# Altium schematic symbol library machada_general_ICs.SchLib: 5 symbols
Pins are listed as number, name and electrical type; pins without a type are passive.

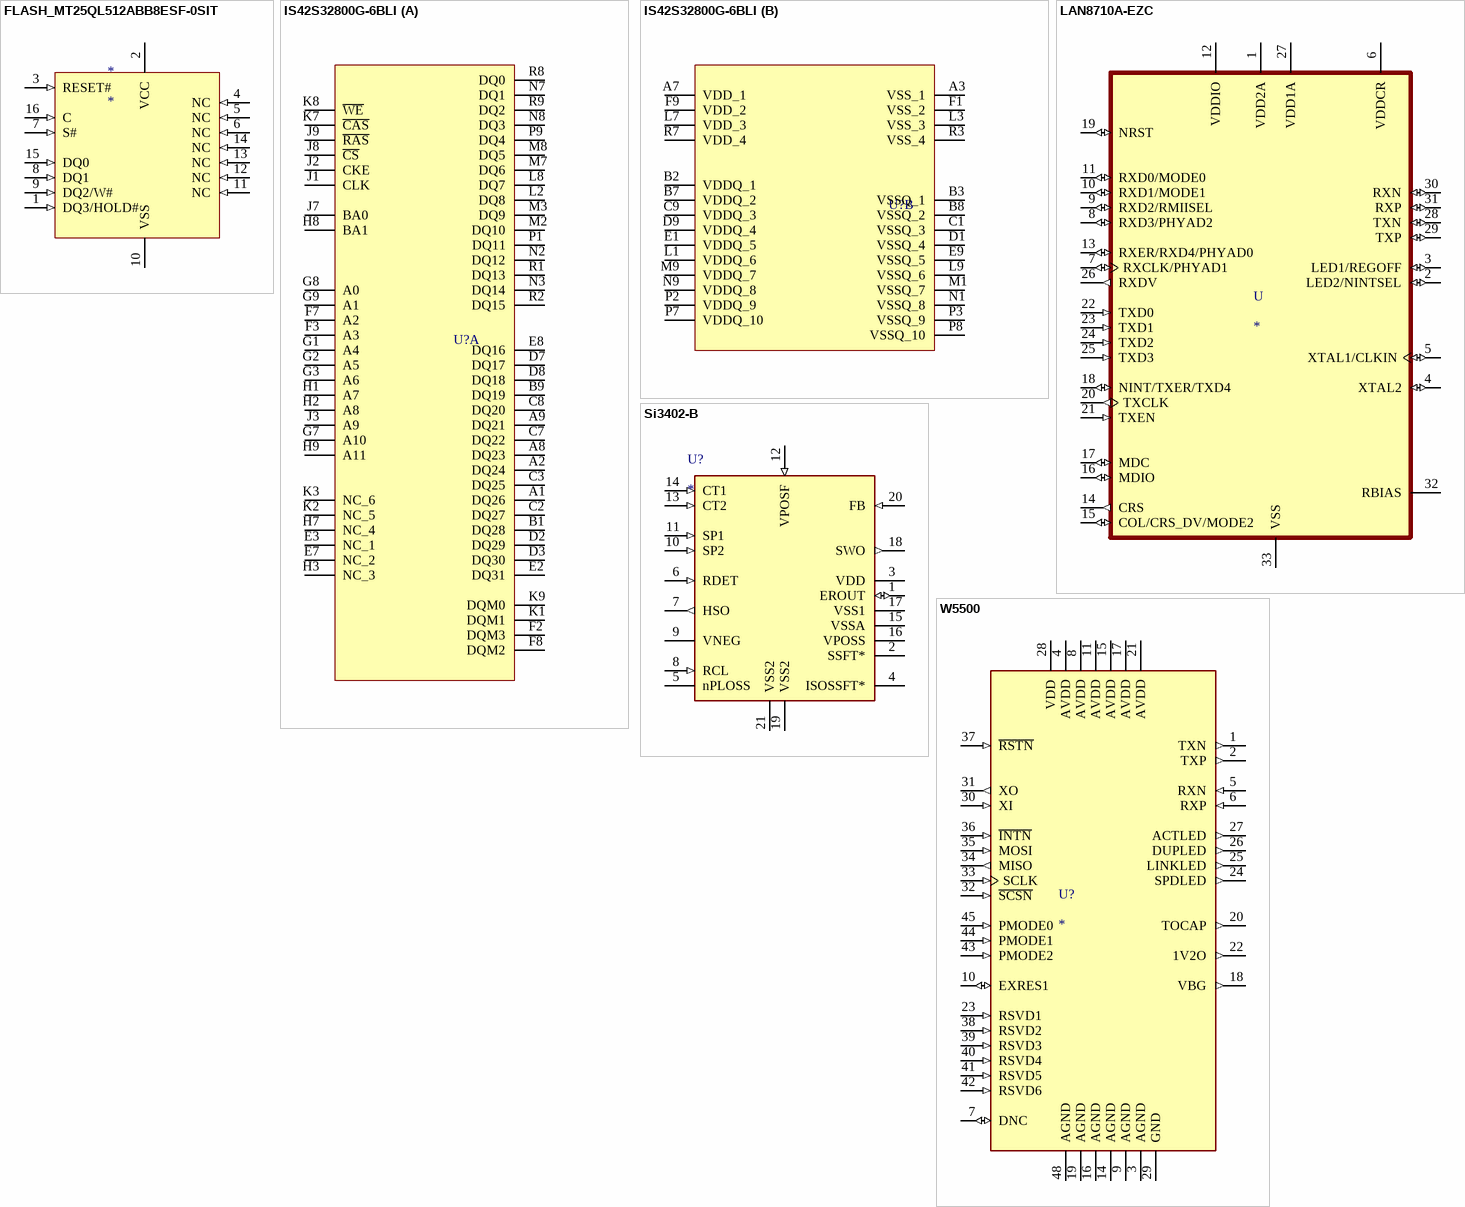
[diagram p0: symbols FLASH_MT25QL512ABB8ESF-0SIT to W5500]

## FLASH_MT25QL512ABB8ESF-0SIT
designator *
footprint SOP16_7.5mm (w=7.5mm l=10.3mm)
pins: 1 DQ3/HOLD# (in), 2 VCC (power), 3 RESET# (in), 4 NC (in), 5 NC (in), 6 NC (in), 7 S# (in), 8 DQ1 (in), 9 DQ2/W# (in), 10 VSS (power), 11 NC (in), 12 NC (in), 13 NC (in), 14 NC (in), 15 DQ0 (in), 16 C (in)

## IS42S32800G-6BLI
designator U?
DRAM 256M 8Mx32 166Mhz SDR SDRAM, 3.3V; Manufacturer_Name: Integrated Silicon Solution Inc.; Geometry.Height: 1.2mm; Manufacturer_Part_Number: IS42S32800G-6BLI; Mouser Part Number: 870-IS42S32800G-6BLI; Mouser Price/Stock: https://www.mouser.co.uk/ProductDetail/ISSI/IS42S32800G-6BLI?qs=9hm%252BDT1Jr7y8Y1H1g6WIYA%3D%3D; Arrow Part Number: IS42S32800G-6BLI; Arrow Price/Stock: https://www.arrow.com/en/products/is42s32800g-6bli/integrated-silicon-solution-inc?region=nac; Mouser Testing Part Number: *; Mouser Testing Price/Stock: *; Datasheet Link: https://www.issi.com/WW/pdf/42-45S32800G.pdf
footprint BGA90C80P9X15_800X1300X120
part A pins: A1 DQ26, A2 DQ24, A8 DQ23, A9 DQ21, B1 DQ28, B9 DQ19, C2 DQ27, C3 DQ25, C7 DQ22, C8 DQ20, D2 DQ29, D3 DQ30, D7 DQ17, D8 DQ18, E2 DQ31, E3 NC_1, E7 NC_2, E8 DQ16, F2 DQM3, F3 A3, F7 A2, F8 DQM2, G1 A4, G2 A5, G3 A6, G7 A10, G8 A0, G9 A1, H1 A7, H2 A8, H3 NC_3, H7 NC_4, H8 BA1, H9 A11, J1 CLK, J2 CKE, J3 A9, J7 BA0, J8 ~{CS}, J9 ~{RAS}, K1 DQM1, K2 NC_5, K3 NC_6, K7 ~{CAS}, K8 ~{WE}, K9 DQM0, L2 DQ8, L8 DQ7, M2 DQ10, M3 DQ9, M7 DQ6, M8 DQ5, N2 DQ12, N3 DQ14, N7 DQ1, N8 DQ3, P1 DQ11, P9 DQ4, R1 DQ13, R2 DQ15, R8 DQ0, R9 DQ2
part B pins: A3 VSS_1, A7 VDD_1, B2 VDDQ_1, B3 VSSQ_1, B7 VDDQ_2, B8 VSSQ_2, C1 VSSQ_3, C9 VDDQ_3, D1 VSSQ_4, D9 VDDQ_4, E1 VDDQ_5, E9 VSSQ_5, F1 VSS_2, F9 VDD_2, L1 VDDQ_6, L3 VSS_3, L7 VDD_3, L9 VSSQ_6, M1 VSSQ_7, M9 VDDQ_7, N1 VSSQ_8, N9 VDDQ_8, P2 VDDQ_9, P3 VSSQ_9, P7 VDDQ_10, P8 VSSQ_10, R3 VSS_4, R7 VDD_4

## LAN8710A-EZC
designator U
4/4 Transceiver Full MII, RMII 32-QFN-EP _5x5_; MP: LAN8710A-EZC; MF: Microchip; Value: *; Package: QFN-32 Microchip; Price: None; Availability: Unavailable; SnapEDA_Link: https://www.snapeda.com/parts/LAN8710A-EZC/Microchip/view-part/354147/?ref=snap; ComponentLink1Description: Buy; ComponentLink1URL: https://www.lcsc.com/product-detail/Ethernet-ICs_Microchip-Tech-LAN8710AI-EZK-TR-ABC_C621418.html
footprint QFN50P500X500X100-33N
pins: 1 VDD2A (power), 2 LED2/NINTSEL (io), 3 LED1/REGOFF (io), 4 XTAL2 (io), 5 XTAL1/CLKIN (io), 6 VDDCR (power), 7 RXCLK/PHYAD1 (io), 8 RXD3/PHYAD2 (io), 9 RXD2/RMIISEL (io), 10 RXD1/MODE1 (io), 11 RXD0/MODE0 (io), 12 VDDIO (power), 13 RXER/RXD4/PHYAD0 (io), 14 CRS (out), 15 COL/CRS_DV/MODE2 (io), 16 MDIO (io), 17 MDC (io), 18 NINT/TXER/TXD4 (io), 19 NRST (io), 20 TXCLK (out), 21 TXEN (in), 22 TXD0 (in), 23 TXD1 (in), 24 TXD2 (in), 25 TXD3 (in), 26 RXDV (out), 27 VDD1A (power), 28 TXN (io), 29 TXP (io), 30 RXN (io), 31 RXP (io), 32 RBIAS, 33 VSS (power)

## Si3402-B
designator U?
Si3402-B POE PD Controller
footprint QFN-20_P0.8_5x5mm_1EP_2.7x2.7mm
pins: 1 EROUT (io), 2 SSFT* (hiz), 3 VDD (power), 4 ISOSSFT* (hiz), 5 nPLOSS (oe), 6 RDET (in), 7 HSO (out), 8 RCL (in), 9 VNEG, 10 SP2 (in), 11 SP1 (in), 12 VPOSF (in), 13 CT2 (in), 14 CT1 (in), 15 VSSA (power), 16 VPOSS (hiz), 17 VSS1 (power), 18 SWO (out), 19 VSS2 (power), 20 FB (in), 21 VSS2 (power)

## W5500
designator U?
Hardwired TCP/IP embedded Ethernet controller; MP: W5500; Availability: Unavailable; Value: *; Price: None; Package: None
footprint QFP_48N_9x9mm_0.5P_7x7mm
pins: 1 TXN (out), 2 TXP (out), 3 AGND (power), 4 AVDD (power), 5 RXN (in), 6 RXP (in), 7 DNC (io), 8 AVDD (power), 9 AGND (power), 10 EXRES1 (io), 11 AVDD (power), 14 AGND (power), 15 AVDD (power), 16 AGND (power), 17 AVDD (power), 18 VBG (out), 19 AGND (power), 20 TOCAP (out), 21 AVDD (power), 22 1V2O (out), 23 RSVD1 (in), 24 SPDLED (out), 25 LINKLED (out), 26 DUPLED (out), 27 ACTLED (out), 28 VDD (power), 29 GND, 30 XI (in), 31 XO (out), 32 ~{SCSN} (in), 33 SCLK (in), 34 MISO (out), 35 MOSI (in), 36 ~{INTN} (in), 37 ~{RSTN} (in), 38 RSVD2 (in), 39 RSVD3 (in), 40 RSVD4 (in), 41 RSVD5 (in), 42 RSVD6 (in), 43 PMODE2 (in), 44 PMODE1 (in), 45 PMODE0 (in), 48 AGND (power)